# Altium footprint library Coaxile.PcbLib: 1 footprints
Each footprint in its own frame and in the unit in brackets; x right, y up, seen from the top. Pads: shape width x height; smd on the part's side, far side on the other; paste and mask are expansions set on the pad; w line width, h text height; cw(c..) or ccw(c..) is an arc to the next point about the centre after c.
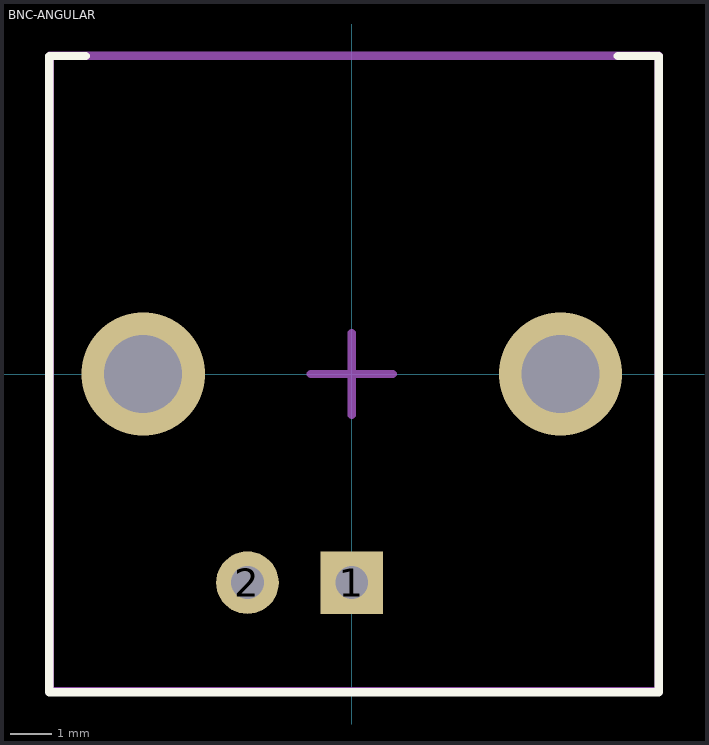
[diagram p0: the footprint, top view; thin cyan lines are the x and y axes]

## BNC-ANGULAR [mil]
pads (2):
  rect 60x60 hole 31.5: 1(0,-200)
  round 60 hole 31.5: 2(-100,-200)
via 200,0 diameter 118.11 hole 74.8
via -200,0 diameter 118.11 hole 74.8
Top Overlay:
  lines w7.87: -255,305 -290,305 -290,-305 -285,-305 294.29,-305 294.29,305 255,305
Mechanical 15:
  lines w7.87: -39.37,0 39.37,0 ; 0,-39.37 0,39.37 ; -289.37,-304.13 -289.37,305.12 294.29,305.12 294.29,-304.13 -289.37,-304.13
3D body "BNC-Angular.step": height 515.75, standoff -157.48, extent -285.43,-300 289.37,1112.21